# Altium schematic symbol library LIB.SchLib: 2 symbols
Pins are listed as number, name and electrical type; pins without a type are passive.

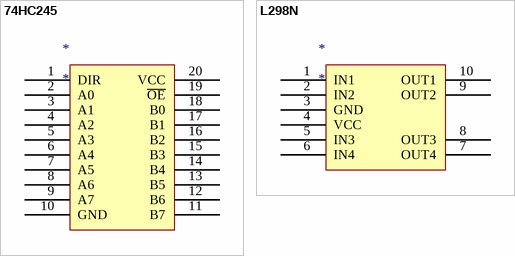
[diagram p0: symbols 74HC245 to L298N]

## 74HC245
designator *
pins: 1 DIR, 2 A0, 3 A1, 4 A2, 5 A3, 6 A4, 7 A5, 8 A6, 9 A7, 10 GND, 11 B7, 12 B6, 13 B5, 14 B4, 15 B3, 16 B2, 17 B1, 18 B0, 19 ~{OE}, 20 VCC

## L298N
designator *
pins: 1 IN1, 2 IN2, 3 GND, 4 VCC, 5 IN3, 6 IN4, 7 OUT4, 8 OUT3, 9 OUT2, 10 OUT1